# Altium integrated library 0402-Res.IntLib: 1 symbol
Pins are listed as number, name and electrical type; pins without a type are passive.

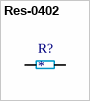
[diagram p0: symbol Res-0402]

## Res-0402
designator R?
footprint Res-0402
pins: 0, 1